# EAGLE library part FS8205 (library eload_powermeter)
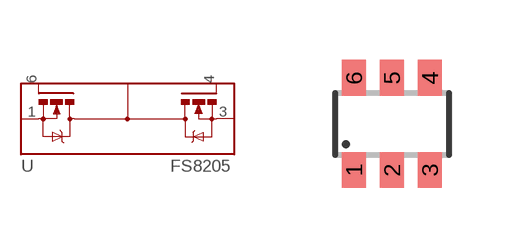
[diagram p4: symbol with the pads of SOT23-6; footprint SOT23-6]

Designator prefix -

## FS8205  [SOT23-6]
1  S1  pas
2  D1  pas
3  S2  pas
4  G2  pas
5  D2  pas
6  G1  pas

## Footprint SOT23-6 (pad centres in mm)
Small Outline Transistor 6 lead
smd 0.6 x 0.9: 1 -0.95,-1.15; 2 0,-1.15; 3 0.95,-1.15; 4 0.95,1.15; 5 0,1.15; 6 -0.95,1.15